# Altium footprint library pot.PCBLIB: 55 footprints (part 3 of 4)
Each footprint in its own frame and in the unit in brackets; x right, y up, seen from the top. Pads: shape width x height; smd on the part's side, far side on the other; paste and mask are expansions set on the pad; w line width, h text height; cw(c..) or ccw(c..) is an arc to the next point about the centre after c.
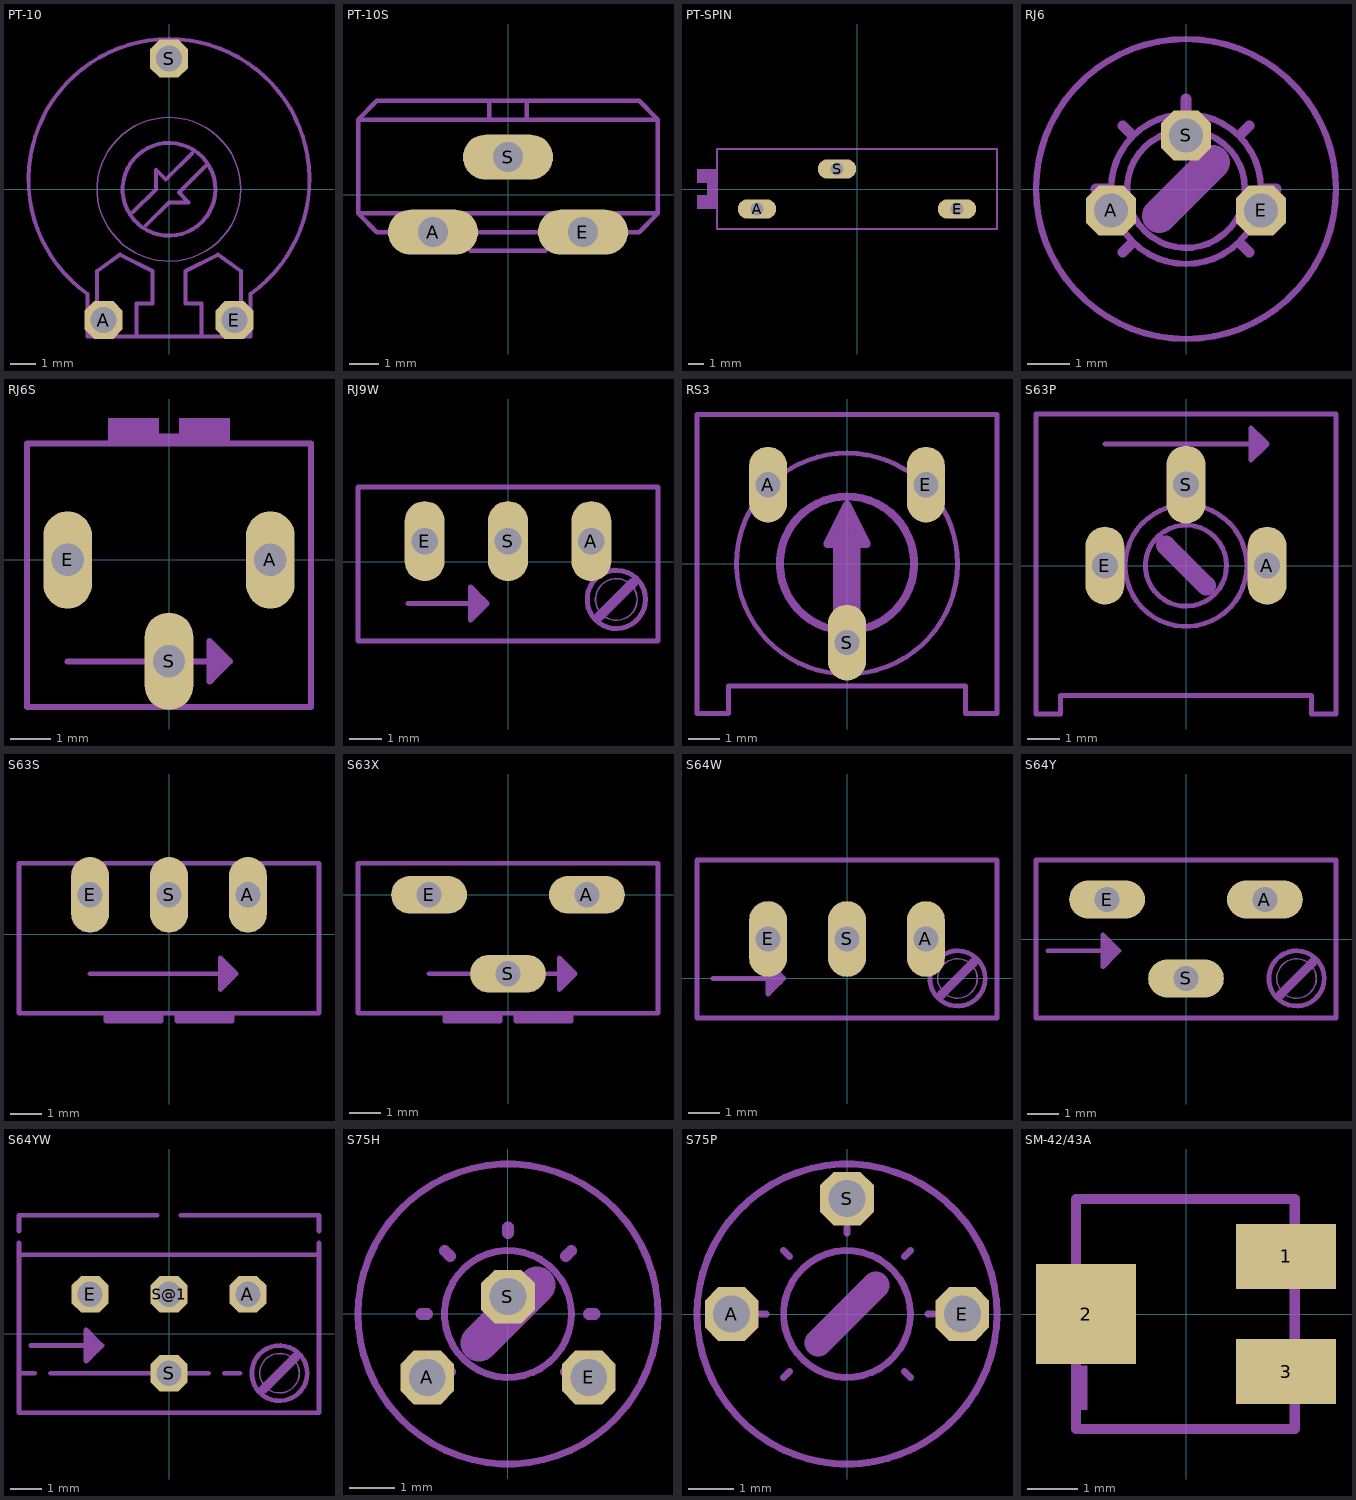
[diagram p2: the footprints below, top view; thin cyan lines are the x and y axes]

## PT-10 [mil]
pads (3):
  oct 58.09x58.09 hole 40: A(-100,-200) E(100,-200) S(0,200)
Mechanical 2:
  circle w6: c0,0 r71
  circle w2: c0,0 r110
  lines w6: -125,-160 cw(c0,15) 125,-160 ; -110,-125 -75,-100 -25,-125 -25,-175 -50,-175 -50,-225 ; -55,-35 -20,0 -20,30 -5,15 35,55 ; -35,-55 0,-20 30,-20 15,-5 55,35 ; 50,-225 50,-175 25,-175 25,-125 75,-100 110,-125
Mechanical 18:
  lines w6: -125,-160 -125,-225 125,-225 125,-160 ; -110,-225 -110,-125 ; 110,-225 110,-125

## PT-10S [mil]
pads (3):
  oval 120x60 hole 40: A(-100,-50) E(100,-50) S(0,50)
Mechanical 2:
  lines w6: -175,-50 -200,-25 -200,100 ; -50,-75 50,-75 ; -25,100 -25,125 ; 25,100 25,125 ; 175,-50 200,-25 200,100 ; -200,100 -175,125 175,125 200,100 ; -200,100 200,100
Mechanical 18:
  lines w6: -200,-25 200,-25 ; -175,-50 175,-50 ; -75,-50 -50,-75 ; 50,-75 75,-50

## PT-SPIN [mil]
pads (3):
  oval 96x48 hole 32: A(-250,-50) E(250,-50) S(-50,50)
Mechanical 2:
  rectangle: -375,-50 -350,50
  rectangle: -400,15 -375,50
  rectangle: -400,-50 -375,-15
  lines w6: -350,-100 350,-100 350,100 -350,100 -350,-100

## RJ6 [mil]
pads (3):
  oct 46.48x46.48 hole 32: A(-70,-20) E(70,-20) S(0,50)
Mechanical 2:
  circle w6: c0,0 r140
  lines w10: -59,59 -52,52 ; 52,52 59,59
Mechanical 18:
  circle w6: c0,0 r55
  circle w6: c0,0 r70
  lines w10: -84,0 -74,0 ; -59,-59 -52,-52 ; 0,74 0,84 ; 52,-52 59,-59 ; 74,0 84,0
  lines w32: -25,-25 25,25

## RJ6S [mil]
pads (3):
  oval 48x96 hole 32: A(100,0) E(-100,0) S(0,-100)
Mechanical 2:
  rectangle: -60,115 -10,140
  rectangle: 10,115 60,140
  rectangle: -10,115 10,125
  lines w6: -140,-145 -140,115 140,115 140,-145 -140,-145
Mechanical 18:
  lines w6: -100,-100 45,-100 ; 45,-115 50,-110 ; 45,-115 45,-100 ; 45,-115 40,-120 40,-80 45,-85 ; 45,-100 60,-100 ; 45,-100 45,-85 ; 45,-85 50,-90 ; 50,-110 50,-90 ; 50,-110 55,-105 ; 50,-90 55,-95 ; 55,-105 60,-100 ; 55,-105 55,-95 ; 55,-95 60,-100

## RJ9W [mil]
pads (3):
  oval 48x96 hole 32: A(100,25) E(-100,25) S(0,25)
Mechanical 2:
  circle w2: c130,-45 r25
  lines w6: -120,-50 -40,-50 ; -40,-65 -35,-60 ; -40,-65 -40,-50 ; -40,-65 -45,-70 -45,-30 -40,-35 ; -40,-50 -25,-50 ; -40,-50 -40,-35 ; -40,-35 -35,-40 ; -35,-60 -35,-40 ; -35,-60 -30,-55 ; -35,-40 -30,-45 ; -30,-55 -25,-50 ; -30,-55 -30,-45 ; -30,-45 -25,-50 ; -180,-95 180,-95 180,90 -180,90 -180,-95
  lines w12: 110,-65 150,-25
Mechanical 18:
  circle w6: c130,-45 r35

## RS3 [mil]
pads (3):
  oval 48x96 hole 32: A(-100,100) E(100,100) S(0,-100)
Mechanical 2:
  lines w6: -121.56,69.46 ccw(c0,0) 0,-140 ccw(c0,0) 120.05,72.03 ; -72.03,120.05 cw(c0,0) 0,140 cw(c0,0.01) 73,119.46 ; -190,-190 -190,189 190,189 190,-190 150,-190 150,-155 -150,-155 -150,-190 -190,-190
  lines w10: -29.85,-79.59 cw(c0,0) 0,85 cw(c0,0) 29.85,-79.59 ; -15,40 -15,25 ; -10,25 -13,25 ; 0,-60 -5,-60 -5,60 5,60 5,-60 ; 10,25 12,25 ; 15,40 15,25 ; -15,25 -25,25 0,75 25,25 15,25 ; -15,25 -13,25 ; -13,25 -13,-62 12,-62 12,25 ; 12,25 15,25
Mechanical 18:
  lines w6: -140,0 cw(c0,0) -66.68,123.1 ; 62.61,125.22 cw(c0,0) 140,0
  lines w10: -35.62,-77.18 ccw(c-0.01,0) 0,-85 ccw(c0.01,-0.01) 38.01,-76.03

## S63P [mil]
pads (3):
  oval 48x96 hole 32: A(100,0) E(-100,0) S(0,100)
Mechanical 2:
  circle w6: c0,0 r50
  lines w6: -100,150 85,150 ; 85,135 90,140 ; 85,135 85,150 ; 85,135 80,130 80,170 85,165 ; 85,150 100,150 ; 85,150 85,165 ; 85,165 90,160 ; 90,140 90,160 ; 90,140 95,145 ; 90,160 95,155 ; 95,145 100,150 ; 95,145 95,155 ; 95,155 100,150 ; -185,-183 -185,187 185,187 185,-183 155,-183 155,-160 -155,-160 -155,-183 -185,-183
  lines w24: -25,25 25,-25
Mechanical 18:
  circle w6: c0,0 r75

## S63S [mil]
pads (3):
  oval 48x96 hole 32: A(100,50) E(-100,50) S(0,50)
Mechanical 2:
  lines w6: -80,-105 -80,-100 ; -80,-105 -80,-110 -10,-110 -10,-105 ; -80,-105 -10,-105 ; -80,-100 -190,-100 -190,90 190,90 190,-100 80,-100 ; -80,-100 -10,-100 ; -10,-105 -10,-100 ; -10,-100 10,-100 ; 10,-105 80,-105 ; 10,-105 10,-110 80,-110 80,-105 ; 10,-105 10,-100 ; 10,-100 80,-100 ; 80,-105 80,-100
Mechanical 18:
  lines w6: -100,-50 70,-50 ; 70,-65 75,-60 ; 70,-65 70,-50 ; 70,-65 65,-70 65,-30 70,-35 ; 70,-50 85,-50 ; 70,-50 70,-35 ; 70,-35 75,-40 ; 75,-60 75,-40 ; 75,-60 80,-55 ; 75,-40 80,-45 ; 80,-55 85,-50 ; 80,-55 80,-45 ; 80,-45 85,-50

## S63X [mil]
pads (3):
  oval 96x48 hole 32: A(100,0) E(-100,0) S(0,-100)
Mechanical 2:
  lines w6: -80,-155 -80,-150 ; -80,-155 -10,-155 ; -80,-155 -80,-160 -10,-160 -10,-155 ; -80,-150 -190,-150 -190,40 190,40 190,-150 80,-150 ; -80,-150 -10,-150 ; -10,-155 -10,-150 ; -10,-150 10,-150 ; 10,-155 10,-160 80,-160 80,-155 ; 10,-155 10,-150 ; 10,-155 80,-155 ; 10,-150 80,-150 ; 80,-155 80,-150
Mechanical 18:
  lines w6: -100,-100 70,-100 ; 70,-115 75,-110 ; 70,-115 70,-100 ; 70,-115 65,-120 65,-80 70,-85 ; 70,-100 85,-100 ; 70,-100 70,-85 ; 70,-85 75,-90 ; 75,-110 75,-90 ; 75,-110 80,-105 ; 75,-90 80,-95 ; 80,-105 85,-100 ; 80,-105 80,-95 ; 80,-95 85,-100

## S64W [mil]
pads (3):
  oval 48x96 hole 32: A(100,50) E(-100,50) S(0,50)
Mechanical 2:
  circle w2: c140,0 r25
  lines w6: -190,-50 190,-50 190,150 -190,150 -190,-50
  lines w12: 120,-20 160,20
Mechanical 18:
  circle w6: c140,0 r35
  lines w6: -170,0 -95,0 ; -95,-15 -90,-10 ; -95,-15 -95,0 ; -95,-15 -100,-20 -100,20 -95,15 ; -95,0 -80,0 ; -95,0 -95,15 ; -95,15 -90,10 ; -90,-10 -90,10 ; -90,-10 -85,-5 ; -90,10 -85,5 ; -85,-5 -80,0 ; -85,-5 -85,5 ; -85,5 -80,0

## S64Y [mil]
pads (3):
  oval 96x48 hole 32: A(100,50) E(-100,50) S(0,-50)
Mechanical 2:
  circle w6: c140,-50 r35
  circle w2: c140,-50 r25
  lines w6: -190,-100 190,-100 190,100 -190,100 -190,-100
  lines w12: 120,-70 160,-30
Mechanical 18:
  lines w6: -175,-15 -100,-15 ; -100,-30 -95,-25 ; -100,-30 -100,-15 ; -100,-30 -105,-35 -105,5 -100,0 ; -100,-15 -85,-15 ; -100,-15 -100,0 ; -100,0 -95,-5 ; -95,-25 -95,-5 ; -95,-25 -90,-20 ; -95,-5 -90,-10 ; -90,-20 -85,-15 ; -90,-20 -90,-10 ; -90,-10 -85,-15

## S64YW [mil]
pads (4):
  oct 46.48x46.48 hole 32: A(100,50) E(-100,50) S(0,-50) S@1(0,50)
Mechanical 2:
  circle w6: c140,-50 r35
  circle w2: c140,-50 r25
  lines w6: -190,115 -190,100 ; -190,130 -190,150 -15,150 ; -170,-50 -190,-50 ; -150,-50 -40,-50 ; 15,150 190,150 190,130 ; 35,-50 50,-50 ; 70,-50 90,-50 ; 190,115 190,100 ; -190,-50 -190,-100 190,-100 190,100 ; -190,-50 -190,100 ; -190,100 190,100
  lines w12: 120,-70 160,-30
Mechanical 18:
  lines w6: -175,-15 -100,-15 ; -40,-50 40,-50 ; -100,-30 -95,-25 ; -100,-30 -100,-15 ; -100,-30 -105,-35 -105,5 -100,0 ; -100,-15 -85,-15 ; -100,-15 -100,0 ; -100,0 -95,-5 ; -95,-25 -95,-5 ; -95,-25 -90,-20 ; -95,-5 -90,-10 ; -90,-20 -85,-15 ; -90,-20 -90,-10 ; -90,-10 -85,-15

## S75H [mil]
pads (3):
  oct 46.48x46.48 hole 32: A(-70,-55) E(70,-55) S(0,15)
Mechanical 2:
  circle w6: c0,0 r130
  lines w10: -75,0 -70,0 ; -55,55 -50,50 ; 0,70 0,75 ; 50,50 55,55 ; 70,0 75,0
Mechanical 18:
  circle w6: c0,0 r55
  lines w10: -55,-55 -50,-50 ; 50,-50 55,-55
  lines w32: -25,-25 25,25

## S75P [mil]
pads (3):
  oct 46.48x46.48 hole 32: A(-100,0) E(100,0) S(0,100)
Mechanical 2:
  circle w6: c0,0 r55
  lines w6: -127.48,-25.5 ccw(c-0.01,0) 0,-130 ccw(c0,0) 127.66,-24.55 ; -127.08,26.48 cw(c0,0) -35,125 ; -55,-55 -50,-50 ; -55,55 -50,50 ; 35,125 cw(c0,0) 127.08,26.48 ; 50,-50 55,-55 ; 50,50 55,55
  lines w24: -25,-25 25,25
Mechanical 18:
  circle w6: c0,0 r130
  lines w6: -75,0 -70,0 ; 0,70 0,75 ; 70,0 75,0

## SM-42/43A [mm]
pads (3):
  rect 2x1.3 smd: 1(2,1.15) 3(2,-1.15)
  rect 2x2 smd: 2(-2,0)
Mechanical 2:
  region: -1.975,-1.925 -1.975,-1.025 -2.3,-1.025 -2.3,-1.925
  lines w0.203: -2.2,-1.2 -2.2,-2.3 2.175,-2.3 ; -2.2,1.2 -2.2,2.3 2.175,2.3
Mechanical 18:
  region: 2.5,-1.675 2.5,-0.875 2.2,-0.875 2.2,-1.675
  region: 2.5,0.875 2.5,1.675 2.2,1.675 2.2,0.875
  region: -2.2,-0.65 -2.2,0.65 -2.5,0.65 -2.5,-0.65
  lines w0.203: -2.2,-2.3 -2.2,2.3 ; 2.175,-2.3 2.175,2.3